# Altium integrated library S29GL256P90TFIR20.IntLib: 1 symbol
Pins are listed as number, name and electrical type; pins without a type are passive.

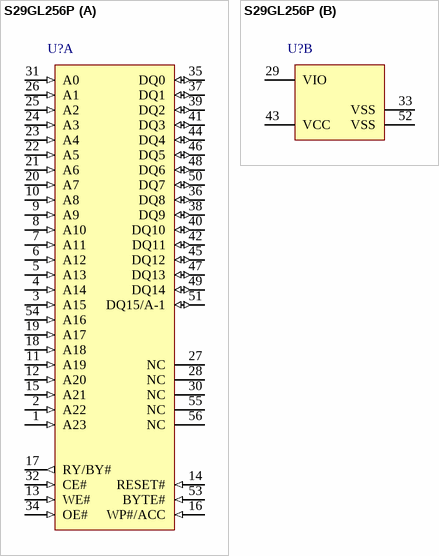
[diagram p0: symbol S29GL256P]

## S29GL256P
designator U?
footprint 56-Pin_Standard_TSOP (SOP, 56-Leads, Body 18.6x14.2mm, Pitch 0.5mm, IPC Medium Density)
part A pins: 1 A23 (in), 2 A22 (in), 3 A15 (in), 4 A14 (in), 5 A13 (in), 6 A12 (in), 7 A11 (in), 8 A10 (in), 9 A9 (in), 10 A8 (in), 11 A19 (in), 12 A20 (in), 13 WE# (in) "Write Enable", 14 RESET# (in) "Hardware Reset. Low = device resets and returns to reading array data.", 15 A21 (in), 16 WP#/ACC (in) "Write Protect/Acceleration Input. At VIL , disables program and erase functions in the outermost sectors. At VHH , accelerates programming; automatically places device in unlock bypass mode. Should be at VIH for all other conditions. WP# has an internal pull-up; when unconnected, WP# is at VIH .", 17 RY/BY# (out) "Ready/Busy. Indicates whether an Embedded Algorithm is in progress or complete. At  V IL , the device is actively erasing or programming. At High Z, the device is in ready.", 18 A18 (in), 19 A17 (in), 20 A7 (in), 21 A6 (in), 22 A5 (in), 23 A4 (in), 24 A3 (in), 25 A2 (in), 26 A1 (in), 27 NC, 28 NC, 30 NC, 31 A0 (in), 32 CE# (in) "Chip Enable", 34 OE# (in) "Output Enable", 35 DQ0 (io), 36 DQ8 (io), 37 DQ1 (io), 38 DQ9 (io), 39 DQ2 (io), 40 DQ10 (io), 41 DQ3 (io), 42 DQ11 (io), 44 DQ4 (io), 45 DQ12 (io) "DATA INPUT/OUTPUT: Inputs data and commands during write cycles; Outputs data during reads of memory, status register, OTP register, and read configuration register. Data balls float when the CE# or OE# are deasserted. Data (See Datasheet)", 46 DQ5 (io), 47 DQ13 (io), 48 DQ6 (io), 49 DQ14 (io), 50 DQ7 (io), 51 DQ15/A-1 (io), 53 BYTE# (in) "Selects data bus width. At VIL, the device is in byte configuration and data I/O pins DQ0-  DQ7 are active and DQ15/A-1 becomes the LSB address input. At VIH, the device is in  word configuration and data I/O pins DQ0-DQ15 are active.", 54 A16 (in), 55 NC, 56 NC
part B pins: 29 VIO (power) "Versatile IO Input", 33 VSS (power) "GROUND: Connect to system ground. Do not float any VSS connection.", 43 VCC (power) "Device Power Supply", 52 VSS (power) "Ground"